# EAGLE library part M-2X14- (library con-headers-jp)
MALE HEADER
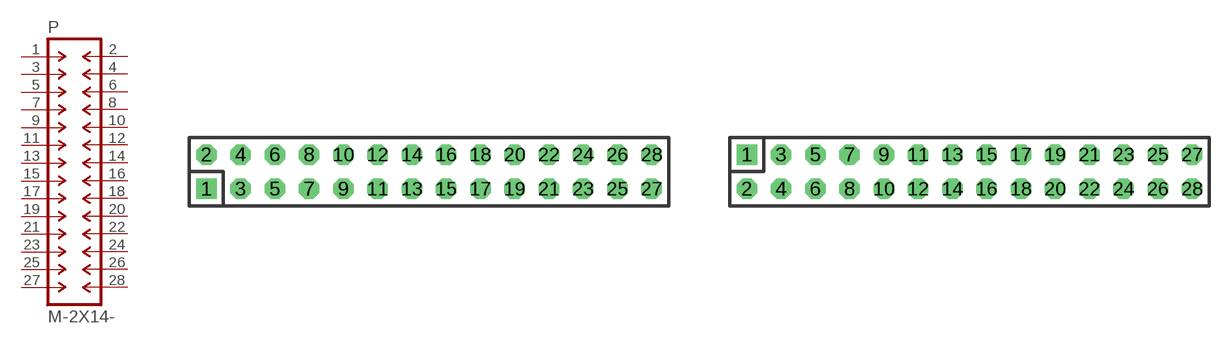
[diagram p69: symbol with the pads of DIL-100-2X14; footprints DIL-100-2X14, DIL-100-2X14_M]

Designator prefix P

## M-2X14-DIL-100  [DIL-100-2X14]
1  1  pas
2  2  pas
3  3  pas
4  4  pas
5  5  pas
6  6  pas
7  7  pas
8  8  pas
9  9  pas
10  10  pas
11  11  pas
12  12  pas
13  13  pas
14  14  pas
15  15  pas
16  16  pas
17  17  pas
18  18  pas
19  19  pas
20  20  pas
21  21  pas
22  22  pas
23  23  pas
24  24  pas
25  25  pas
26  26  pas
27  27  pas
28  28  pas

## M-2X14-DIL-100_M  [DIL-100-2X14_M]
Pads as for DIL-100-2X14

## M-2X14-DIL-2MM  [DIL-2MM-2X14]
Pads as for DIL-100-2X14

## M-2X14-DIL-2MM_M  [DIL-2MM-2X14_M]
Pads as for DIL-100-2X14

## Footprint DIL-100-2X14 (pad centres in mm)
PIN HEADER - 0.1"
drill 1.016 square: 1 -16.51,-1.27
drill 1.016 octagon: 2 -16.51,1.27; 3 -13.97,-1.27; 4 -13.97,1.27; 5 -11.43,-1.27; 6 -11.43,1.27; 7 -8.89,-1.27; 8 -8.89,1.27; 9 -6.35,-1.27; 10 -6.35,1.27; 11 -3.81,-1.27; 12 -3.81,1.27; 13 -1.27,-1.27; 14 -1.27,1.27; 15 1.27,-1.27; 16 1.27,1.27; 17 3.81,-1.27; 18 3.81,1.27; 19 6.35,-1.27; 20 6.35,1.27; 21 8.89,-1.27; 22 8.89,1.27; 23 11.43,-1.27; 24 11.43,1.27; 25 13.97,-1.27; 26 13.97,1.27; 27 16.51,-1.27; 28 16.51,1.27

## Footprint DIL-100-2X14_M (pad centres in mm)
PIN HEADER - MIRRORED 0.1"
drill 1.016 square: 1 -16.51,1.27
drill 1.016 octagon: 2 -16.51,-1.27; 3 -13.97,1.27; 4 -13.97,-1.27; 5 -11.43,1.27; 6 -11.43,-1.27; 7 -8.89,1.27; 8 -8.89,-1.27; 9 -6.35,1.27; 10 -6.35,-1.27; 11 -3.81,1.27; 12 -3.81,-1.27; 13 -1.27,1.27; 14 -1.27,-1.27; 15 1.27,1.27; 16 1.27,-1.27; 17 3.81,1.27; 18 3.81,-1.27; 19 6.35,1.27; 20 6.35,-1.27; 21 8.89,1.27; 22 8.89,-1.27; 23 11.43,1.27; 24 11.43,-1.27; 25 13.97,1.27; 26 13.97,-1.27; 27 16.51,1.27; 28 16.51,-1.27

## Footprint DIL-2MM-2X14 (pad centres in mm)
PIN HEADER - 2MM
drill 0.711 square: 1 -13,-1
drill 0.711 round: 2 -13,1; 3 -11,-1; 4 -11,1; 5 -9,-1; 6 -9,1; 7 -7,-1; 8 -7,1; 9 -5,-1; 10 -5,1; 11 -3,-1; 12 -3,1; 13 -1,-1; 14 -1,1; 15 1,-1; 16 1,1; 17 3,-1; 18 3,1; 19 5,-1; 20 5,1; 21 7,-1; 22 7,1; 23 9,-1; 24 9,1; 25 11,-1; 26 11,1; 27 13,-1; 28 13,1

## Footprint DIL-2MM-2X14_M (pad centres in mm)
PIN HEADER - MIRRORED 2MM
drill 0.711 square: 1 -13,1
drill 0.711 round: 2 -13,-1; 3 -11,1; 4 -11,-1; 5 -9,1; 6 -9,-1; 7 -7,1; 8 -7,-1; 9 -5,1; 10 -5,-1; 11 -3,1; 12 -3,-1; 13 -1,1; 14 -1,-1; 15 1,1; 16 1,-1; 17 3,1; 18 3,-1; 19 5,1; 20 5,-1; 21 7,1; 22 7,-1; 23 9,1; 24 9,-1; 25 11,1; 26 11,-1; 27 13,1; 28 13,-1